# Altium footprint library Inductor_SMD.PcbLib: 587 footprints (part 24 of 37)
Each footprint in its own frame and in the unit in brackets; x right, y up, seen from the top. Pads: shape width x height; smd on the part's side, far side on the other; paste and mask are expansions set on the pad; w line width, h text height; cw(c..) or ccw(c..) is an arc to the next point about the centre after c.
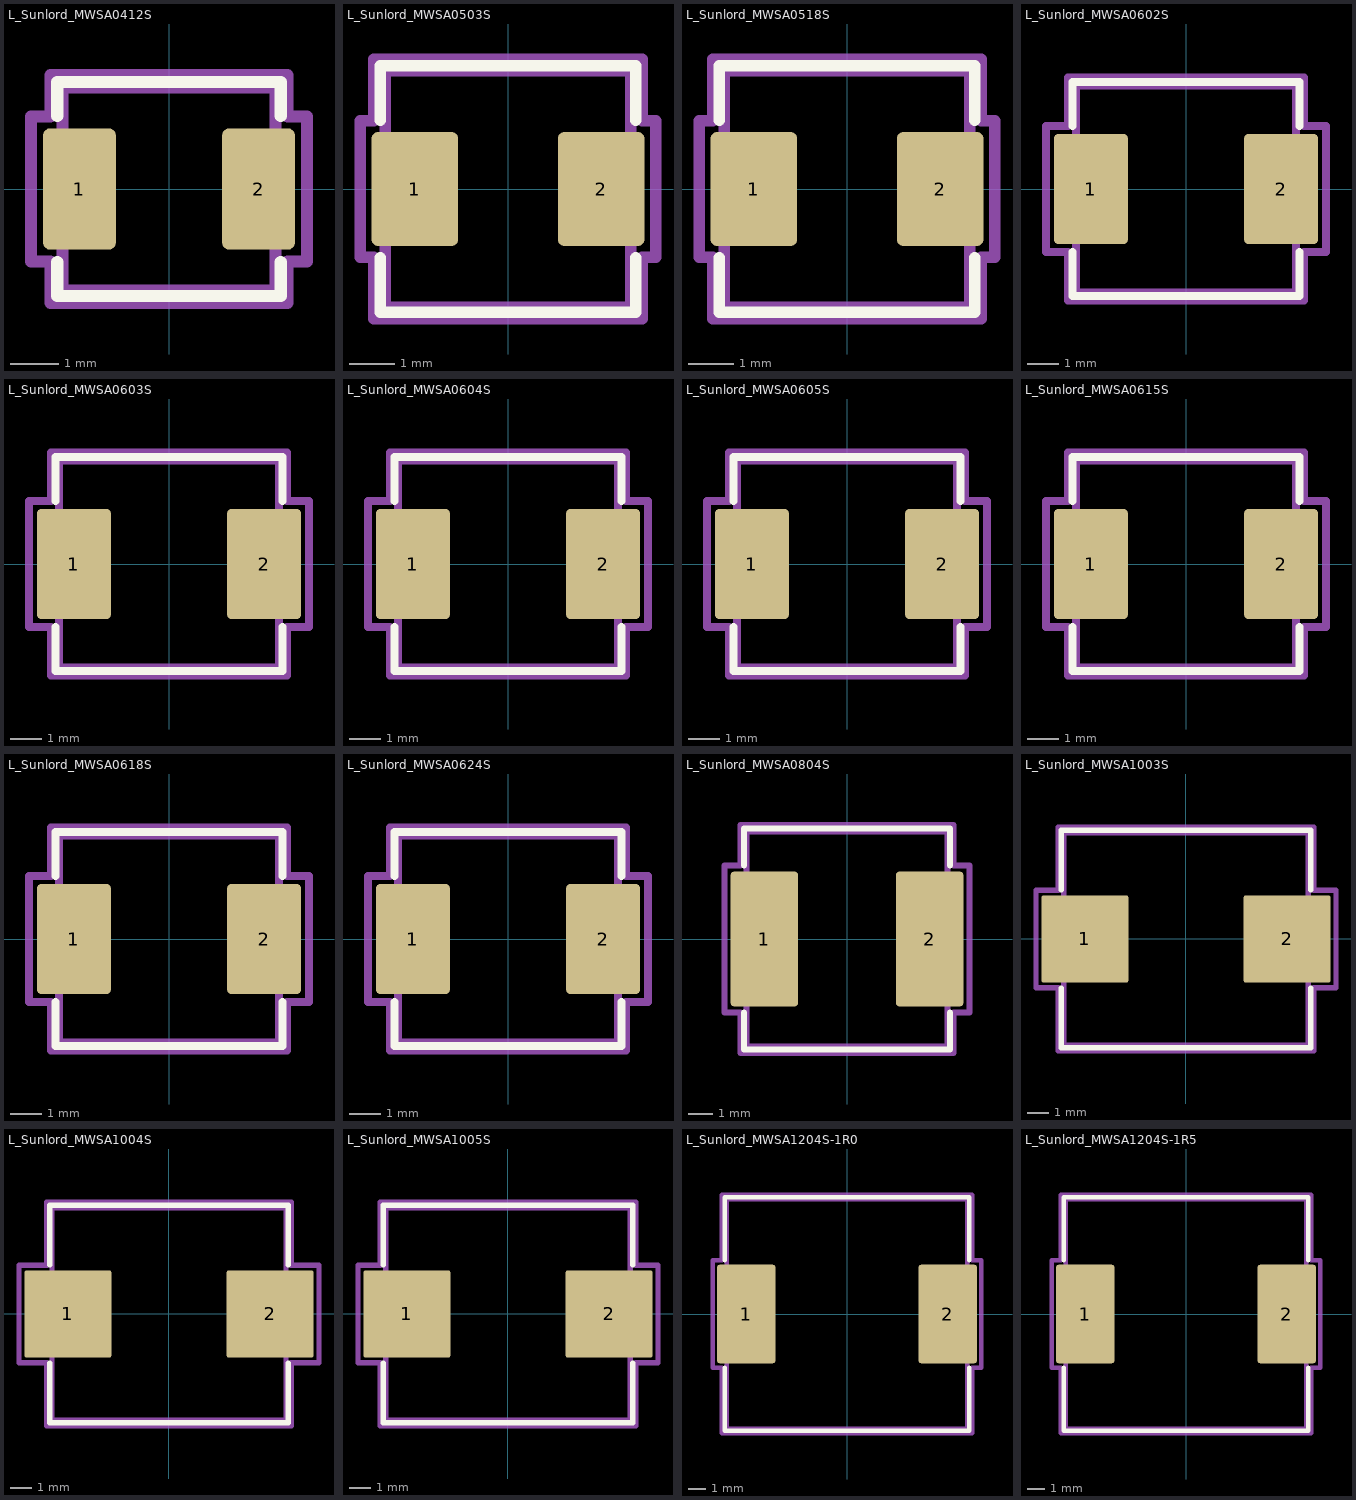
[diagram p23: the footprints below, top view; thin cyan lines are the x and y axes]

## L_Sunlord_MWSA0412S [mm] "L_Sunlord_MWSA0412S"
pads (2):
  rrect17% 1.5x2.5 smd: 1(-1.85,0) 2(1.85,0)
F.SilkS:
  lines w0.254: -2.31,-1.51 -2.31,-2.21 2.31,-2.21 2.31,-1.51 ; -2.31,1.51 -2.31,2.21 2.31,2.21 2.31,1.51
Top Assembly:
  lines w0.254: -2.2,-2.1 -2.2,2.1 2.2,2.1 2.2,-2.1 -2.2,-2.1
  text "'.Designator'" at -4.047,-0.84 h1
Top Courtyard:
  lines w0.254: -2.85,-1.5 -2.85,1.5 -2.45,1.5 -2.45,2.35 2.45,2.35 2.45,1.5 2.85,1.5 2.85,-1.5 2.45,-1.5 2.45,-2.35 -2.45,-2.35 -2.45,-1.5 -2.85,-1.5
Top Designator:
  text ".Designator" at -7.768,-0.508 h1.52
3D body "L_Sunlord_MWSA0412S.step": height 1, standoff 0, extent -2.205,-2.1 2.205,2.1

## L_Sunlord_MWSA0503S [mm] "L_Sunlord_MWSA0503S"
pads (2):
  rrect13% 1.9x2.5 smd: 1(-2.05,0) 2(2.05,0)
F.SilkS:
  lines w0.254: -2.81,-1.51 -2.81,-2.71 2.81,-2.71 2.81,-1.51 ; -2.81,1.51 -2.81,2.71 2.81,2.71 2.81,1.51
Top Assembly:
  lines w0.254: -2.7,-2.6 -2.7,2.6 2.7,2.6 2.7,-2.6 -2.7,-2.6
  text "'.Designator'" at -4.047,-0.84 h1
Top Courtyard:
  lines w0.254: -3.25,-1.5 -3.25,1.5 -2.95,1.5 -2.95,2.85 2.95,2.85 2.95,1.5 3.25,1.5 3.25,-1.5 2.95,-1.5 2.95,-2.85 -2.95,-2.85 -2.95,-1.5 -3.25,-1.5
Top Designator:
  text ".Designator" at -7.768,-0.508 h1.52
3D body "L_Sunlord_MWSA0503S.step": height 2.8, standoff 0, extent -2.705,-2.6 2.705,2.6

## L_Sunlord_MWSA0518S [mm] "L_Sunlord_MWSA0518S"
pads (2):
  rrect13% 1.9x2.5 smd: 1(-2.05,0) 2(2.05,0)
F.SilkS:
  lines w0.254: -2.81,-1.51 -2.81,-2.71 2.81,-2.71 2.81,-1.51 ; -2.81,1.51 -2.81,2.71 2.81,2.71 2.81,1.51
Top Assembly:
  lines w0.254: -2.7,-2.6 2.7,-2.6 2.7,2.6 -2.7,2.6 -2.7,-2.6
  text "'.Designator'" at -4.047,-0.84 h1
Top Courtyard:
  lines w0.254: -3.25,-1.5 -2.95,-1.5 -2.95,-2.85 2.95,-2.85 2.95,-1.5 3.25,-1.5 3.25,1.5 2.95,1.5 2.95,2.85 -2.95,2.85 -2.95,1.5 -3.25,1.5 -3.25,-1.5
Top Designator:
  text ".Designator" at -7.768,-0.508 h1.52
3D body "L_Sunlord_MWSA0518S.step": height 1.6, standoff 0, extent -2.725,-2.654 2.685,2.546

## L_Sunlord_MWSA0602S [mm] "L_Sunlord_MWSA0602S"
pads (2):
  rrect11% 2.35x3.5 smd: 1(-3.025,0) 2(3.025,0)
F.SilkS:
  lines w0.254: -3.61,-2.01 -3.61,-3.41 3.61,-3.41 3.61,-2.01 ; -3.61,2.01 -3.61,3.41 3.61,3.41 3.61,2.01
Top Assembly:
  lines w0.254: -3.5,-3.3 3.5,-3.3 3.5,3.3 -3.5,3.3 -3.5,-3.3
  text "'.Designator'" at -4.047,-0.84 h1
Top Courtyard:
  lines w0.254: -4.45,-2 -3.75,-2 -3.75,-3.55 3.75,-3.55 3.75,-2 4.45,-2 4.45,2 3.75,2 3.75,3.55 -3.75,3.55 -3.75,2 -4.45,2 -4.45,-2
Top Designator:
  text ".Designator" at -7.618,-0.508 h1.52
3D body "L_Sunlord_MWSA0602S.step": height 1.8, standoff 0, extent -3.505,-3.3 3.505,3.3

## L_Sunlord_MWSA0603S [mm] "L_Sunlord_MWSA0603S"
pads (2):
  rrect11% 2.35x3.5 smd: 1(-3.025,0) 2(3.025,0)
F.SilkS:
  lines w0.254: -3.61,-2.01 -3.61,-3.41 3.61,-3.41 3.61,-2.01 ; -3.61,2.01 -3.61,3.41 3.61,3.41 3.61,2.01
Top Assembly:
  lines w0.254: -3.5,-3.3 -3.5,3.3 3.5,3.3 3.5,-3.3 -3.5,-3.3
  text "'.Designator'" at -4.047,-0.84 h1
Top Courtyard:
  lines w0.254: -4.45,-2 -4.45,2 -3.75,2 -3.75,3.55 3.75,3.55 3.75,2 4.45,2 4.45,-2 3.75,-2 3.75,-3.55 -3.75,-3.55 -3.75,-2 -4.45,-2
Top Designator:
  text ".Designator" at -7.618,-0.508 h1.52
3D body "L_Sunlord_MWSA0603S.step": height 2.8, standoff 0, extent -3.505,-3.3 3.505,3.3

## L_Sunlord_MWSA0604S [mm] "L_Sunlord_MWSA0604S"
pads (2):
  rrect11% 2.35x3.5 smd: 1(-3.025,0) 2(3.025,0)
F.SilkS:
  lines w0.254: -3.61,-2.01 -3.61,-3.41 3.61,-3.41 3.61,-2.01 ; -3.61,2.01 -3.61,3.41 3.61,3.41 3.61,2.01
Top Assembly:
  lines w0.254: -3.5,-3.3 -3.5,3.3 3.5,3.3 3.5,-3.3 -3.5,-3.3
  text "'.Designator'" at -4.047,-0.84 h1
Top Courtyard:
  lines w0.254: -4.45,-2 -4.45,2 -3.75,2 -3.75,3.55 3.75,3.55 3.75,2 4.45,2 4.45,-2 3.75,-2 3.75,-3.55 -3.75,-3.55 -3.75,-2 -4.45,-2
Top Designator:
  text ".Designator" at -7.618,-0.508 h1.52
3D body "L_Sunlord_MWSA0604S.step": height 3.8, standoff 0, extent -3.505,-3.3 3.505,3.3

## L_Sunlord_MWSA0605S [mm] "L_Sunlord_MWSA0605S"
pads (2):
  rrect11% 2.35x3.5 smd: 1(-3.025,0) 2(3.025,0)
F.SilkS:
  lines w0.254: -3.61,-2.01 -3.61,-3.41 3.61,-3.41 3.61,-2.01 ; -3.61,2.01 -3.61,3.41 3.61,3.41 3.61,2.01
Top Assembly:
  lines w0.254: -3.5,-3.3 3.5,-3.3 3.5,3.3 -3.5,3.3 -3.5,-3.3
  text "'.Designator'" at -4.047,-0.84 h1
Top Courtyard:
  lines w0.254: -4.45,-2 -3.75,-2 -3.75,-3.55 3.75,-3.55 3.75,-2 4.45,-2 4.45,2 3.75,2 3.75,3.55 -3.75,3.55 -3.75,2 -4.45,2 -4.45,-2
Top Designator:
  text ".Designator" at -7.618,-0.508 h1.52
3D body "L_Sunlord_MWSA0605S.step": height 4.8, standoff 0, extent -3.505,-3.3 3.505,3.3

## L_Sunlord_MWSA0615S [mm] "L_Sunlord_MWSA0615S"
pads (2):
  rrect11% 2.35x3.5 smd: 1(-3.025,0) 2(3.025,0)
F.SilkS:
  lines w0.254: -3.61,-2.01 -3.61,-3.41 3.61,-3.41 3.61,-2.01 ; -3.61,2.01 -3.61,3.41 3.61,3.41 3.61,2.01
Top Assembly:
  lines w0.254: -3.5,-3.3 -3.5,3.3 3.5,3.3 3.5,-3.3 -3.5,-3.3
  text "'.Designator'" at -4.047,-0.84 h1
Top Courtyard:
  lines w0.254: -4.45,-2 -4.45,2 -3.75,2 -3.75,3.55 3.75,3.55 3.75,2 4.45,2 4.45,-2 3.75,-2 3.75,-3.55 -3.75,-3.55 -3.75,-2 -4.45,-2
Top Designator:
  text ".Designator" at -7.618,-0.508 h1.52
3D body "L_Sunlord_MWSA0615S.step": height 1.3, standoff 0, extent -3.505,-3.3 3.505,3.3

## L_Sunlord_MWSA0618S [mm] "L_Sunlord_MWSA0618S"
pads (2):
  rrect11% 2.35x3.5 smd: 1(-3.025,0) 2(3.025,0)
F.SilkS:
  lines w0.254: -3.61,-2.01 -3.61,-3.41 3.61,-3.41 3.61,-2.01 ; -3.61,2.01 -3.61,3.41 3.61,3.41 3.61,2.01
Top Assembly:
  lines w0.254: -3.5,-3.3 -3.5,3.3 3.5,3.3 3.5,-3.3 -3.5,-3.3
  text "'.Designator'" at -4.047,-0.84 h1
Top Courtyard:
  lines w0.254: -4.45,-2 -4.45,2 -3.75,2 -3.75,3.55 3.75,3.55 3.75,2 4.45,2 4.45,-2 3.75,-2 3.75,-3.55 -3.75,-3.55 -3.75,-2 -4.45,-2
Top Designator:
  text ".Designator" at -7.618,-0.508 h1.52
3D body "L_Sunlord_MWSA0618S.step": height 1.6, standoff 0, extent -3.505,-3.3 3.505,3.3

## L_Sunlord_MWSA0624S [mm] "L_Sunlord_MWSA0624S"
pads (2):
  rrect11% 2.35x3.5 smd: 1(-3.025,0) 2(3.025,0)
F.SilkS:
  lines w0.254: -3.61,-2.01 -3.61,-3.41 3.61,-3.41 3.61,-2.01 ; -3.61,2.01 -3.61,3.41 3.61,3.41 3.61,2.01
Top Assembly:
  lines w0.254: -3.5,-3.3 -3.5,3.3 3.5,3.3 3.5,-3.3 -3.5,-3.3
  text "'.Designator'" at -4.047,-0.84 h1
Top Courtyard:
  lines w0.254: -4.45,-2 -4.45,2 -3.75,2 -3.75,3.55 3.75,3.55 3.75,2 4.45,2 4.45,-2 3.75,-2 3.75,-3.55 -3.75,-3.55 -3.75,-2 -4.45,-2
Top Designator:
  text ".Designator" at -7.618,-0.508 h1.52
3D body "L_Sunlord_MWSA0624S.step": height 2.2, standoff 0, extent -3.505,-3.3 3.505,3.3

## L_Sunlord_MWSA0804S [mm] "L_Sunlord_MWSA0804S"
pads (2):
  rrect9% 2.75x5.5 smd: 1(-3.375,0) 2(3.375,0)
F.SilkS:
  lines w0.254: -4.21,-3.01 -4.21,-4.51 4.21,-4.51 4.21,-3.01 ; -4.21,3.01 -4.21,4.51 4.21,4.51 4.21,3.01
Top Assembly:
  lines w0.254: -4.1,-4.4 -4.1,4.4 4.1,4.4 4.1,-4.4 -4.1,-4.4
  text "'.Designator'" at -4.047,-0.84 h1
Top Courtyard:
  lines w0.254: -5,-3 -5,3 -4.35,3 -4.35,4.65 4.35,4.65 4.35,3 5,3 5,-3 4.35,-3 4.35,-4.65 -4.35,-4.65 -4.35,-3 -5,-3
Top Designator:
  text ".Designator" at -7.618,-0.508 h1.52
3D body "L_Sunlord_MWSA0804S.step": height 3.8, standoff 0, extent -4.105,-4.4 4.105,4.4

## L_Sunlord_MWSA1003S [mm] "L_Sunlord_MWSA1003S"
pads (2):
  rrect6% 4.1x4.1 smd: 1(-4.75,0) 2(4.75,0)
F.SilkS:
  lines w0.254: -5.86,-2.31 -5.86,-5.11 5.86,-5.11 5.86,-2.31 ; -5.86,2.31 -5.86,5.11 5.86,5.11 5.86,2.31
Top Assembly:
  lines w0.254: -5.75,-5 -5.75,5 5.75,5 5.75,-5 -5.75,-5
  text "'.Designator'" at -4.047,-0.84 h1
Top Courtyard:
  lines w0.254: -7.05,-2.3 -7.05,2.3 -6,2.3 -6,5.25 6,5.25 6,2.3 7.05,2.3 7.05,-2.3 6,-2.3 6,-5.25 -6,-5.25 -6,-2.3 -7.05,-2.3
Top Designator:
  text ".Designator" at -7.618,-0.508 h1.52
3D body "L_Sunlord_MWSA1003S.step": height 2.8, standoff 0, extent -5.755,-5 5.755,5

## L_Sunlord_MWSA1004S [mm] "L_Sunlord_MWSA1004S"
pads (2):
  rrect6% 4.1x4.1 smd: 1(-4.75,0) 2(4.75,0)
F.SilkS:
  lines w0.254: -5.61,-2.31 -5.61,-5.11 5.61,-5.11 5.61,-2.31 ; -5.61,2.31 -5.61,5.11 5.61,5.11 5.61,2.31
Top Assembly:
  lines w0.254: -5.5,-5 5.5,-5 5.5,5 -5.5,5 -5.5,-5
  text "'.Designator'" at -4.047,-0.84 h1
Top Courtyard:
  lines w0.254: -7.05,-2.3 -5.75,-2.3 -5.75,-5.25 5.75,-5.25 5.75,-2.3 7.05,-2.3 7.05,2.3 5.75,2.3 5.75,5.25 -5.75,5.25 -5.75,2.3 -7.05,2.3 -7.05,-2.3
Top Designator:
  text ".Designator" at -7.618,-0.508 h1.52
3D body "L_Sunlord_MWSA1004S.step": height 3.8, standoff 0, extent -5.505,-5 5.505,5

## L_Sunlord_MWSA1005S [mm] "L_Sunlord_MWSA1005S"
pads (2):
  rrect6% 4.1x4.1 smd: 1(-4.75,0) 2(4.75,0)
F.SilkS:
  lines w0.254: -5.86,-2.31 -5.86,-5.11 5.86,-5.11 5.86,-2.31 ; -5.86,2.31 -5.86,5.11 5.86,5.11 5.86,2.31
Top Assembly:
  lines w0.254: -5.75,-5 -5.75,5 5.75,5 5.75,-5 -5.75,-5
  text "'.Designator'" at -4.047,-0.84 h1
Top Courtyard:
  lines w0.254: -7.05,-2.3 -7.05,2.3 -6,2.3 -6,5.25 6,5.25 6,2.3 7.05,2.3 7.05,-2.3 6,-2.3 6,-5.25 -6,-5.25 -6,-2.3 -7.05,-2.3
Top Designator:
  text ".Designator" at -7.618,-0.508 h1.52
3D body "L_Sunlord_MWSA1005S.step": height 4.8, standoff 0, extent -5.755,-5 5.755,5

## L_Sunlord_MWSA1204S-1R0 [mm] "L_Sunlord_MWSA1204S-1R0"
pads (2):
  rrect8% 3.25x5.5 smd: 1(-5.625,0) 2(5.625,0)
F.SilkS:
  lines w0.254: -6.835,-3.01 -6.835,-6.51 6.835,-6.51 6.835,-3.01 ; -6.835,3.01 -6.835,6.51 6.835,6.51 6.835,3.01
Top Assembly:
  lines w0.254: -6.725,-6.4 -6.725,6.4 6.725,6.4 6.725,-6.4 -6.725,-6.4
  text "'.Designator'" at -4.047,-0.84 h1
Top Courtyard:
  lines w0.254: -7.5,-3 -7.5,3 -6.98,3 -6.98,6.65 6.98,6.65 6.98,3 7.5,3 7.5,-3 6.98,-3 6.98,-6.65 -6.98,-6.65 -6.98,-3 -7.5,-3
Top Designator:
  text ".Designator" at -7.618,-0.508 h1.52
3D body "L_Sunlord_MWSA1204S-1R0.step": height 4, standoff 0, extent -6.73,-6.4 6.73,6.4

## L_Sunlord_MWSA1204S-1R5 [mm] "L_Sunlord_MWSA1204S-1R5"
pads (2):
  rrect8% 3.25x5.5 smd: 1(-5.625,0) 2(5.625,0)
F.SilkS:
  lines w0.254: -6.835,-3.01 -6.835,-6.51 6.835,-6.51 6.835,-3.01 ; -6.835,3.01 -6.835,6.51 6.835,6.51 6.835,3.01
Top Assembly:
  lines w0.254: -6.725,-6.4 -6.725,6.4 6.725,6.4 6.725,-6.4 -6.725,-6.4
  text "'.Designator'" at -4.047,-0.84 h1
Top Courtyard:
  lines w0.254: -7.5,-3 -7.5,3 -6.98,3 -6.98,6.65 6.98,6.65 6.98,3 7.5,3 7.5,-3 6.98,-3 6.98,-6.65 -6.98,-6.65 -6.98,-3 -7.5,-3
Top Designator:
  text ".Designator" at -7.618,-0.508 h1.52
3D body "L_Sunlord_MWSA1204S-1R5.step": height 4, standoff 0, extent -6.73,-6.4 6.73,6.4